# Altium schematic symbol library 65xx.SchLib: 49 symbols
Pins are listed as number, name and electrical type; pins without a type are passive.

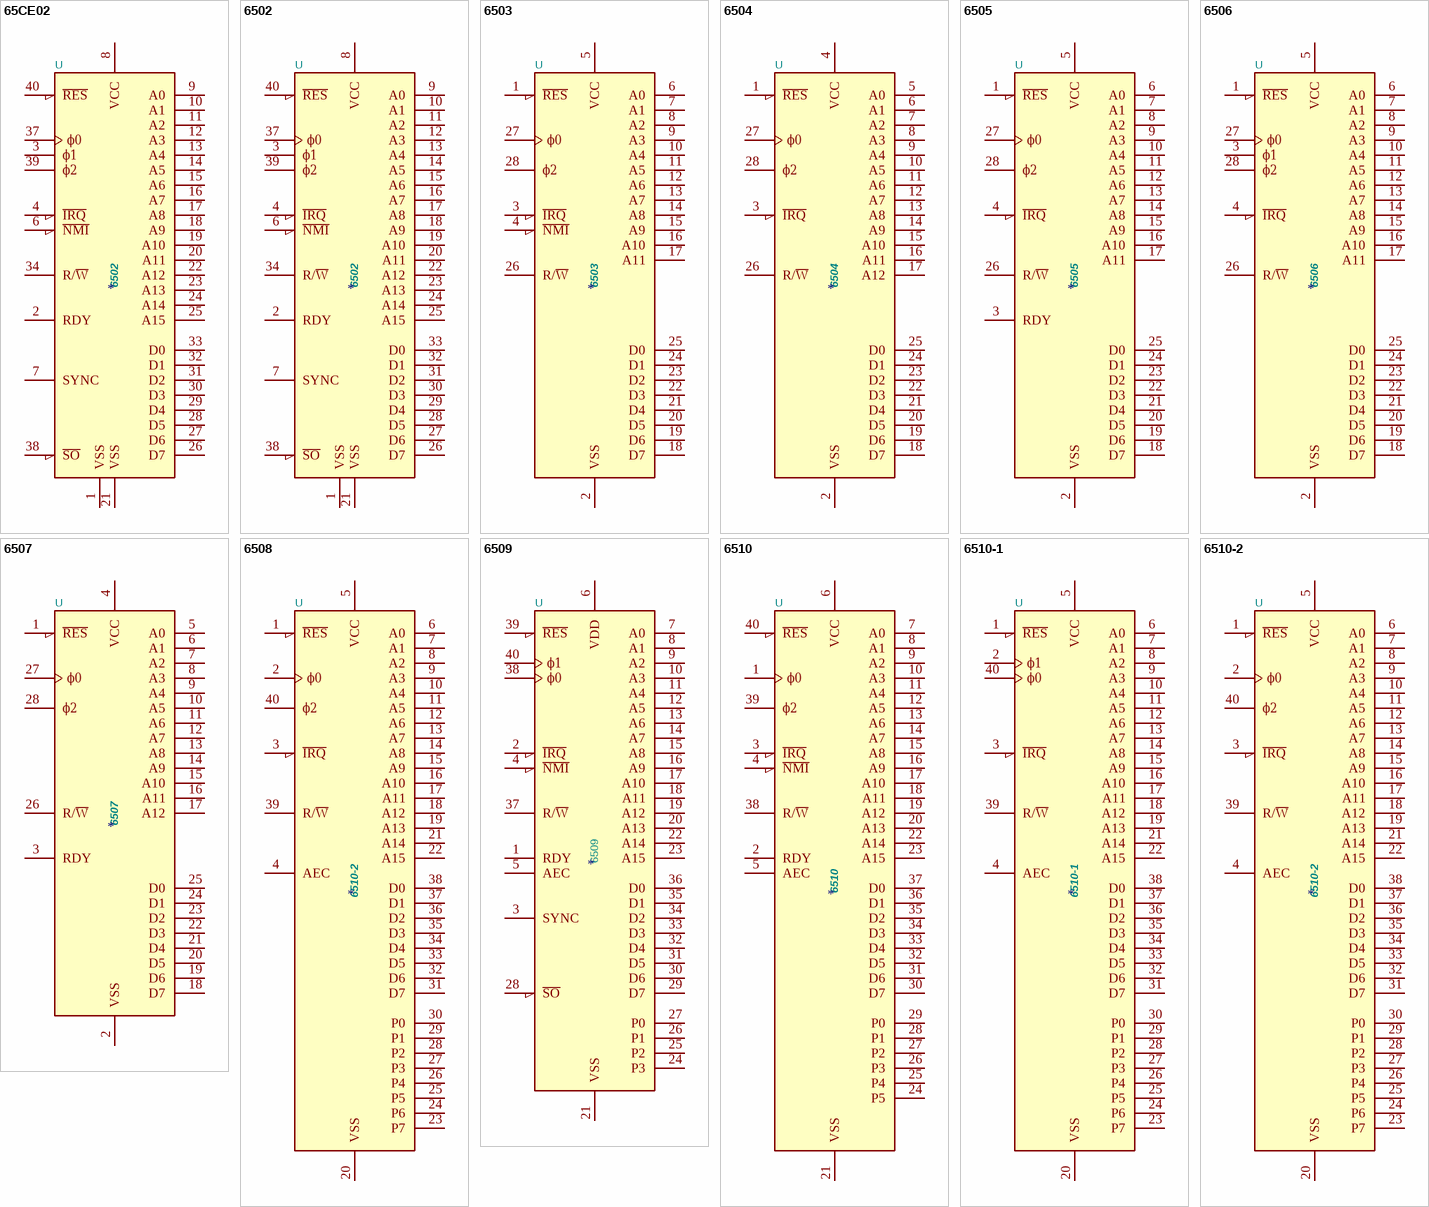
[diagram p0: symbols 65CE02 to 6510-2]

## 65CE02
designator U  value 6502
pins: 1 VSS, 2 RDY, 3 ϕ1, 4 ~{IRQ}, 5 nc hidden, 6 ~{NMI}, 7 SYNC, 8 VCC, 9 A0, 10 A1, 11 A2, 12 A3, 13 A4, 14 A5, 15 A6, 16 A7, 17 A8, 18 A9, 19 A10, 20 A11, 21 VSS, 22 A12, 23 A13, 24 A14, 25 A15, 26 D7, 27 D6, 28 D5, 29 D4, 30 D3, 31 D2, 32 D1, 33 D0, 34 R/~{W}, 35 nc hidden, 36 nc hidden, 37 ϕ0, 38 ~{SO}, 39 ϕ2, 40 ~{RES}

## 6502
designator U  value 6502
pins: 1 VSS, 2 RDY, 3 ϕ1, 4 ~{IRQ}, 5 nc hidden, 6 ~{NMI}, 7 SYNC, 8 VCC, 9 A0, 10 A1, 11 A2, 12 A3, 13 A4, 14 A5, 15 A6, 16 A7, 17 A8, 18 A9, 19 A10, 20 A11, 21 VSS, 22 A12, 23 A13, 24 A14, 25 A15, 26 D7, 27 D6, 28 D5, 29 D4, 30 D3, 31 D2, 32 D1, 33 D0, 34 R/~{W}, 35 nc hidden, 36 nc hidden, 37 ϕ0, 38 ~{SO}, 39 ϕ2, 40 ~{RES}

## 6503
designator U  value 6503
pins: 1 ~{RES}, 2 VSS, 3 ~{IRQ}, 4 ~{NMI}, 5 VCC, 6 A0, 7 A1, 8 A2, 9 A3, 10 A4, 11 A5, 12 A6, 13 A7, 14 A8, 15 A9, 16 A10, 17 A11, 18 D7, 19 D6, 20 D5, 21 D4, 22 D3, 23 D2, 24 D1, 25 D0, 26 R/~{W}, 27 ϕ0, 28 ϕ2

## 6504
designator U  value 6504
pins: 1 ~{RES}, 2 VSS, 3 ~{IRQ}, 4 VCC, 5 A0, 6 A1, 7 A2, 8 A3, 9 A4, 10 A5, 11 A6, 12 A7, 13 A8, 14 A9, 15 A10, 16 A11, 17 A12, 18 D7, 19 D6, 20 D5, 21 D4, 22 D3, 23 D2, 24 D1, 25 D0, 26 R/~{W}, 27 ϕ0, 28 ϕ2

## 6505
designator U  value 6505
pins: 1 ~{RES}, 2 VSS, 3 RDY, 4 ~{IRQ}, 5 VCC, 6 A0, 7 A1, 8 A2, 9 A3, 10 A4, 11 A5, 12 A6, 13 A7, 14 A8, 15 A9, 16 A10, 17 A11, 18 D7, 19 D6, 20 D5, 21 D4, 22 D3, 23 D2, 24 D1, 25 D0, 26 R/~{W}, 27 ϕ0, 28 ϕ2

## 6506
designator U  value 6506
pins: 1 ~{RES}, 2 VSS, 3 ϕ1, 4 ~{IRQ}, 5 VCC, 6 A0, 7 A1, 8 A2, 9 A3, 10 A4, 11 A5, 12 A6, 13 A7, 14 A8, 15 A9, 16 A10, 17 A11, 18 D7, 19 D6, 20 D5, 21 D4, 22 D3, 23 D2, 24 D1, 25 D0, 26 R/~{W}, 27 ϕ0, 28 ϕ2

## 6507
designator U  value 6507
pins: 1 ~{RES}, 2 VSS, 3 RDY, 4 VCC, 5 A0, 6 A1, 7 A2, 8 A3, 9 A4, 10 A5, 11 A6, 12 A7, 13 A8, 14 A9, 15 A10, 16 A11, 17 A12, 18 D7, 19 D6, 20 D5, 21 D4, 22 D3, 23 D2, 24 D1, 25 D0, 26 R/~{W}, 27 ϕ0, 28 ϕ2

## 6508
designator U  value 6510-2
pins: 1 ~{RES}, 2 ϕ0, 3 ~{IRQ}, 4 AEC, 5 VCC, 6 A0, 7 A1, 8 A2, 9 A3, 10 A4, 11 A5, 12 A6, 13 A7, 14 A8, 15 A9, 16 A10, 17 A11, 18 A12, 19 A13, 20 VSS, 21 A14, 22 A15, 23 P7, 24 P6, 25 P5, 26 P4, 27 P3, 28 P2, 29 P1, 30 P0, 31 D7, 32 D6, 33 D5, 34 D4, 35 D3, 36 D2, 37 D1, 38 D0, 39 R/~{W}, 40 ϕ2

## 6509
designator U  value 6509
pins: 1 RDY, 2 ~{IRQ}, 3 SYNC, 4 ~{NMI}, 5 AEC, 6 VDD, 7 A0, 8 A1, 9 A2, 10 A3, 11 A4, 12 A5, 13 A6, 14 A7, 15 A8, 16 A9, 17 A10, 18 A11, 19 A12, 20 A13, 21 VSS, 22 A14, 23 A15, 24 P3, 25 P2, 26 P1, 27 P0, 28 ~{SO}, 29 D7, 30 D6, 31 D5, 32 D4, 33 D3, 34 D2, 35 D1, 36 D0, 37 R/~{W}, 38 ϕ0, 39 ~{RES}, 40 ϕ1

## 6510
designator U  value 6510
pins: 1 ϕ0, 2 RDY, 3 ~{IRQ}, 4 ~{NMI}, 5 AEC, 6 VCC, 7 A0, 8 A1, 9 A2, 10 A3, 11 A4, 12 A5, 13 A6, 14 A7, 15 A8, 16 A9, 17 A10, 18 A11, 19 A12, 20 A13, 21 VSS, 22 A14, 23 A15, 24 P5, 25 P4, 26 P3, 27 P2, 28 P1, 29 P0, 30 D7, 31 D6, 32 D5, 33 D4, 34 D3, 35 D2, 36 D1, 37 D0, 38 R/~{W}, 39 ϕ2, 40 ~{RES}

## 6510-1
designator U  value 6510-1
pins: 1 ~{RES}, 2 ϕ1, 3 ~{IRQ}, 4 AEC, 5 VCC, 6 A0, 7 A1, 8 A2, 9 A3, 10 A4, 11 A5, 12 A6, 13 A7, 14 A8, 15 A9, 16 A10, 17 A11, 18 A12, 19 A13, 20 VSS, 21 A14, 22 A15, 23 P7, 24 P6, 25 P5, 26 P4, 27 P3, 28 P2, 29 P1, 30 P0, 31 D7, 32 D6, 33 D5, 34 D4, 35 D3, 36 D2, 37 D1, 38 D0, 39 R/~{W}, 40 ϕ0

## 6510-2
designator U  value 6510-2
pins: 1 ~{RES}, 2 ϕ0, 3 ~{IRQ}, 4 AEC, 5 VCC, 6 A0, 7 A1, 8 A2, 9 A3, 10 A4, 11 A5, 12 A6, 13 A7, 14 A8, 15 A9, 16 A10, 17 A11, 18 A12, 19 A13, 20 VSS, 21 A14, 22 A15, 23 P7, 24 P6, 25 P5, 26 P4, 27 P3, 28 P2, 29 P1, 30 P0, 31 D7, 32 D6, 33 D5, 34 D4, 35 D3, 36 D2, 37 D1, 38 D0, 39 R/~{W}, 40 ϕ2

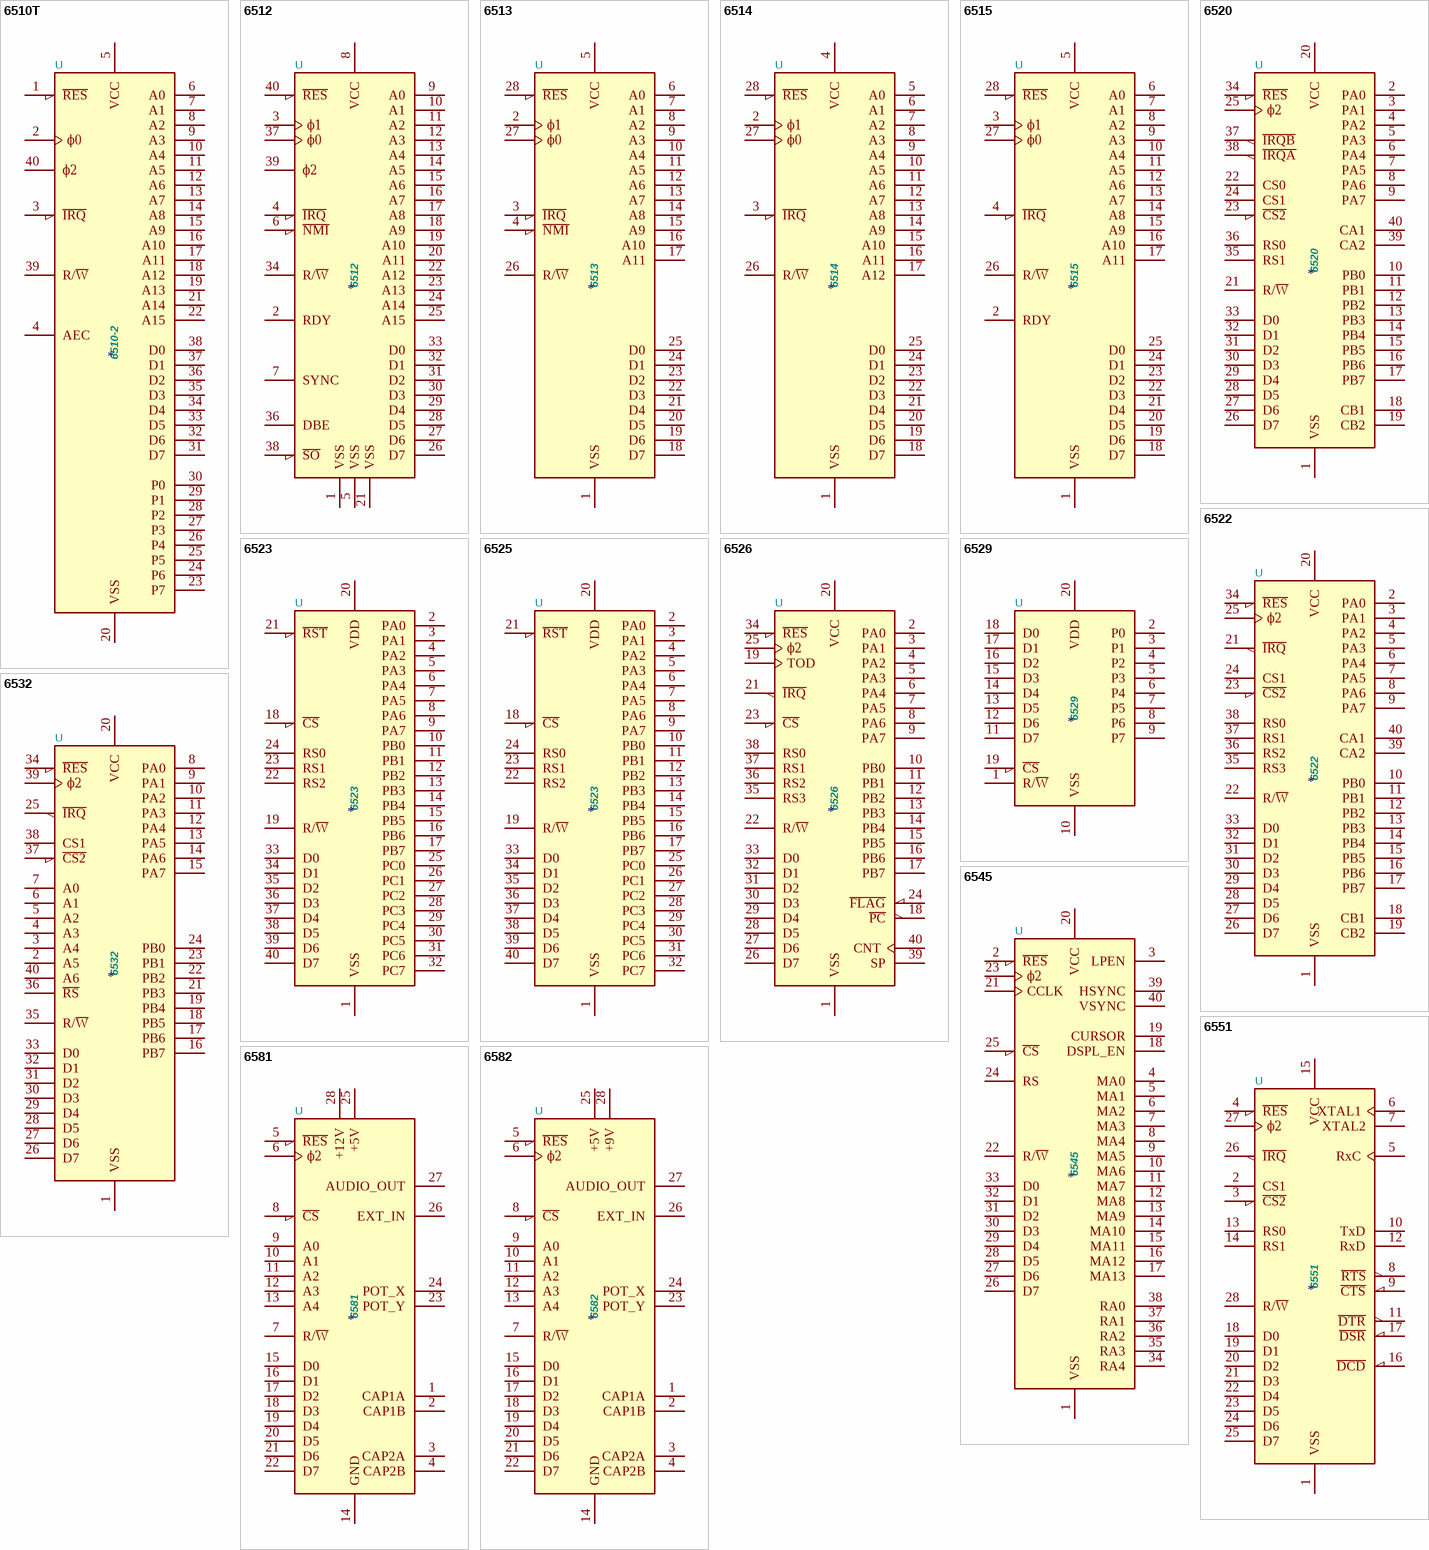
[diagram p1: symbols 6510T to 6582]

## 6510T
designator U  value 6510-2
pins: 1 ~{RES}, 2 ϕ0, 3 ~{IRQ}, 4 AEC, 5 VCC, 6 A0, 7 A1, 8 A2, 9 A3, 10 A4, 11 A5, 12 A6, 13 A7, 14 A8, 15 A9, 16 A10, 17 A11, 18 A12, 19 A13, 20 VSS, 21 A14, 22 A15, 23 P7, 24 P6, 25 P5, 26 P4, 27 P3, 28 P2, 29 P1, 30 P0, 31 D7, 32 D6, 33 D5, 34 D4, 35 D3, 36 D2, 37 D1, 38 D0, 39 R/~{W}, 40 ϕ2

## 6512
designator U  value 6512
pins: 1 VSS, 2 RDY, 3 ϕ1, 4 ~{IRQ}, 5 VSS, 6 ~{NMI}, 7 SYNC, 8 VCC, 9 A0, 10 A1, 11 A2, 12 A3, 13 A4, 14 A5, 15 A6, 16 A7, 17 A8, 18 A9, 19 A10, 20 A11, 21 VSS, 22 A12, 23 A13, 24 A14, 25 A15, 26 D7, 27 D6, 28 D5, 29 D4, 30 D3, 31 D2, 32 D1, 33 D0, 34 R/~{W}, 35 nc hidden, 36 DBE, 37 ϕ0, 38 ~{SO}, 39 ϕ2, 40 ~{RES}

## 6513
designator U  value 6513
pins: 1 VSS, 2 ϕ1, 3 ~{IRQ}, 4 ~{NMI}, 5 VCC, 6 A0, 7 A1, 8 A2, 9 A3, 10 A4, 11 A5, 12 A6, 13 A7, 14 A8, 15 A9, 16 A10, 17 A11, 18 D7, 19 D6, 20 D5, 21 D4, 22 D3, 23 D2, 24 D1, 25 D0, 26 R/~{W}, 27 ϕ0, 28 ~{RES}

## 6514
designator U  value 6514
pins: 1 VSS, 2 ϕ1, 3 ~{IRQ}, 4 VCC, 5 A0, 6 A1, 7 A2, 8 A3, 9 A4, 10 A5, 11 A6, 12 A7, 13 A8, 14 A9, 15 A10, 16 A11, 17 A12, 18 D7, 19 D6, 20 D5, 21 D4, 22 D3, 23 D2, 24 D1, 25 D0, 26 R/~{W}, 27 ϕ0, 28 ~{RES}

## 6515
designator U  value 6515
pins: 1 VSS, 2 RDY, 3 ϕ1, 4 ~{IRQ}, 5 VCC, 6 A0, 7 A1, 8 A2, 9 A3, 10 A4, 11 A5, 12 A6, 13 A7, 14 A8, 15 A9, 16 A10, 17 A11, 18 D7, 19 D6, 20 D5, 21 D4, 22 D3, 23 D2, 24 D1, 25 D0, 26 R/~{W}, 27 ϕ0, 28 ~{RES}

## 6520
designator U  value 6520
pins: 1 VSS, 2 PA0, 3 PA1, 4 PA2, 5 PA3, 6 PA4, 7 PA5, 8 PA6, 9 PA7, 10 PB0, 11 PB1, 12 PB2, 13 PB3, 14 PB4, 15 PB5, 16 PB6, 17 PB7, 18 CB1, 19 CB2, 20 VCC, 21 R/~{W}, 22 CS0, 23 ~{CS2}, 24 CS1, 25 ϕ2, 26 D7, 27 D6, 28 D5, 29 D4, 30 D3, 31 D2, 32 D1, 33 D0, 34 ~{RES}, 35 RS1, 36 RS0, 37 ~{IRQB}, 38 ~{IRQA}, 39 CA2, 40 CA1

## 6522
designator U  value 6522
pins: 1 VSS, 2 PA0, 3 PA1, 4 PA2, 5 PA3, 6 PA4, 7 PA5, 8 PA6, 9 PA7, 10 PB0, 11 PB1, 12 PB2, 13 PB3, 14 PB4, 15 PB5, 16 PB6, 17 PB7, 18 CB1, 19 CB2, 20 VCC, 21 ~{IRQ}, 22 R/~{W}, 23 ~{CS2}, 24 CS1, 25 ϕ2, 26 D7, 27 D6, 28 D5, 29 D4, 30 D3, 31 D2, 32 D1, 33 D0, 34 ~{RES}, 35 RS3, 36 RS2, 37 RS1, 38 RS0, 39 CA2, 40 CA1

## 6523
designator U  value 6523
pins: 1 VSS, 2 PA0, 3 PA1, 4 PA2, 5 PA3, 6 PA4, 7 PA5, 8 PA6, 9 PA7, 10 PB0, 11 PB1, 12 PB2, 13 PB3, 14 PB4, 15 PB5, 16 PB6, 17 PB7, 18 ~{CS}, 19 R/~{W}, 20 VDD, 21 ~{RST}, 22 RS2, 23 RS1, 24 RS0, 25 PC0, 26 PC1, 27 PC2, 28 PC3, 29 PC4, 30 PC5, 31 PC6, 32 PC7, 33 D0, 34 D1, 35 D2, 36 D3, 37 D4, 38 D5, 39 D6, 40 D7

## 6525
designator U  value 6523
pins: 1 VSS, 2 PA0, 3 PA1, 4 PA2, 5 PA3, 6 PA4, 7 PA5, 8 PA6, 9 PA7, 10 PB0, 11 PB1, 12 PB2, 13 PB3, 14 PB4, 15 PB5, 16 PB6, 17 PB7, 18 ~{CS}, 19 R/~{W}, 20 VDD, 21 ~{RST}, 22 RS2, 23 RS1, 24 RS0, 25 PC0, 26 PC1, 27 PC2, 28 PC3, 29 PC4, 30 PC5, 31 PC6, 32 PC7, 33 D0, 34 D1, 35 D2, 36 D3, 37 D4, 38 D5, 39 D6, 40 D7

## 6526
designator U  value 6526
pins: 1 VSS, 2 PA0, 3 PA1, 4 PA2, 5 PA3, 6 PA4, 7 PA5, 8 PA6, 9 PA7, 10 PB0, 11 PB1, 12 PB2, 13 PB3, 14 PB4, 15 PB5, 16 PB6, 17 PB7, 18 ~{PC}, 19 TOD, 20 VCC, 21 ~{IRQ}, 22 R/~{W}, 23 ~{CS}, 24 ~{FLAG}, 25 ϕ2, 26 D7, 27 D6, 28 D5, 29 D4, 30 D3, 31 D2, 32 D1, 33 D0, 34 ~{RES}, 35 RS3, 36 RS2, 37 RS1, 38 RS0, 39 SP, 40 CNT

## 6529
designator U  value 6529
pins: 1 R/~{W}, 2 P0, 3 P1, 4 P2, 5 P3, 6 P4, 7 P5, 8 P6, 9 P7, 10 VSS, 11 D7, 12 D6, 13 D5, 14 D4, 15 D3, 16 D2, 17 D1, 18 D0, 19 ~{CS}, 20 VDD

## 6532
designator U  value 6532
pins: 1 VSS, 2 A5, 3 A4, 4 A3, 5 A2, 6 A1, 7 A0, 8 PA0, 9 PA1, 10 PA2, 11 PA3, 12 PA4, 13 PA5, 14 PA6, 15 PA7, 16 PB7, 17 PB6, 18 PB5, 19 PB4, 20 VCC, 21 PB3, 22 PB2, 23 PB1, 24 PB0, 25 ~{IRQ}, 26 D7, 27 D6, 28 D5, 29 D4, 30 D3, 31 D2, 32 D1, 33 D0, 34 ~{RES}, 35 R/~{W}, 36 ~{RS}, 37 ~{CS2}, 38 CS1, 39 ϕ2, 40 A6

## 6545
designator U  value 6545
pins: 1 VSS, 2 ~{RES}, 3 LPEN, 4 MA0, 5 MA1, 6 MA2, 7 MA3, 8 MA4, 9 MA5, 10 MA6, 11 MA7, 12 MA8, 13 MA9, 14 MA10, 15 MA11, 16 MA12, 17 MA13, 18 DSPL_EN, 19 CURSOR, 20 VCC, 21 CCLK, 22 R/~{W}, 23 ϕ2, 24 RS, 25 ~{CS}, 26 D7, 27 D6, 28 D5, 29 D4, 30 D3, 31 D2, 32 D1, 33 D0, 34 RA4, 35 RA3, 36 RA2, 37 RA1, 38 RA0, 39 HSYNC, 40 VSYNC

## 6551
designator U  value 6551
pins: 1 VSS, 2 CS1, 3 ~{CS2}, 4 ~{RES}, 5 RxC, 6 XTAL1, 7 XTAL2, 8 ~{RTS}, 9 ~{CTS}, 10 TxD, 11 ~{DTR}, 12 RxD, 13 RS0, 14 RS1, 15 VCC, 16 ~{DCD}, 17 ~{DSR}, 18 D0, 19 D1, 20 D2, 21 D3, 22 D4, 23 D5, 24 D6, 25 D7, 26 ~{IRQ}, 27 ϕ2, 28 R/~{W}

## 6581
designator U  value 6581
pins: 1 CAP1A, 2 CAP1B, 3 CAP2A, 4 CAP2B, 5 ~{RES}, 6 ϕ2, 7 R/~{W}, 8 ~{CS}, 9 A0, 10 A1, 11 A2, 12 A3, 13 A4, 14 GND, 15 D0, 16 D1, 17 D2, 18 D3, 19 D4, 20 D5, 21 D6, 22 D7, 23 POT_Y, 24 POT_X, 25 +5V, 26 EXT_IN, 27 AUDIO_OUT, 28 +12V

## 6582
designator U  value 6582
pins: 1 CAP1A, 2 CAP1B, 3 CAP2A, 4 CAP2B, 5 ~{RES}, 6 ϕ2, 7 R/~{W}, 8 ~{CS}, 9 A0, 10 A1, 11 A2, 12 A3, 13 A4, 14 GND, 15 D0, 16 D1, 17 D2, 18 D3, 19 D4, 20 D5, 21 D6, 22 D7, 23 POT_Y, 24 POT_X, 25 +5V, 26 EXT_IN, 27 AUDIO_OUT, 28 +9V

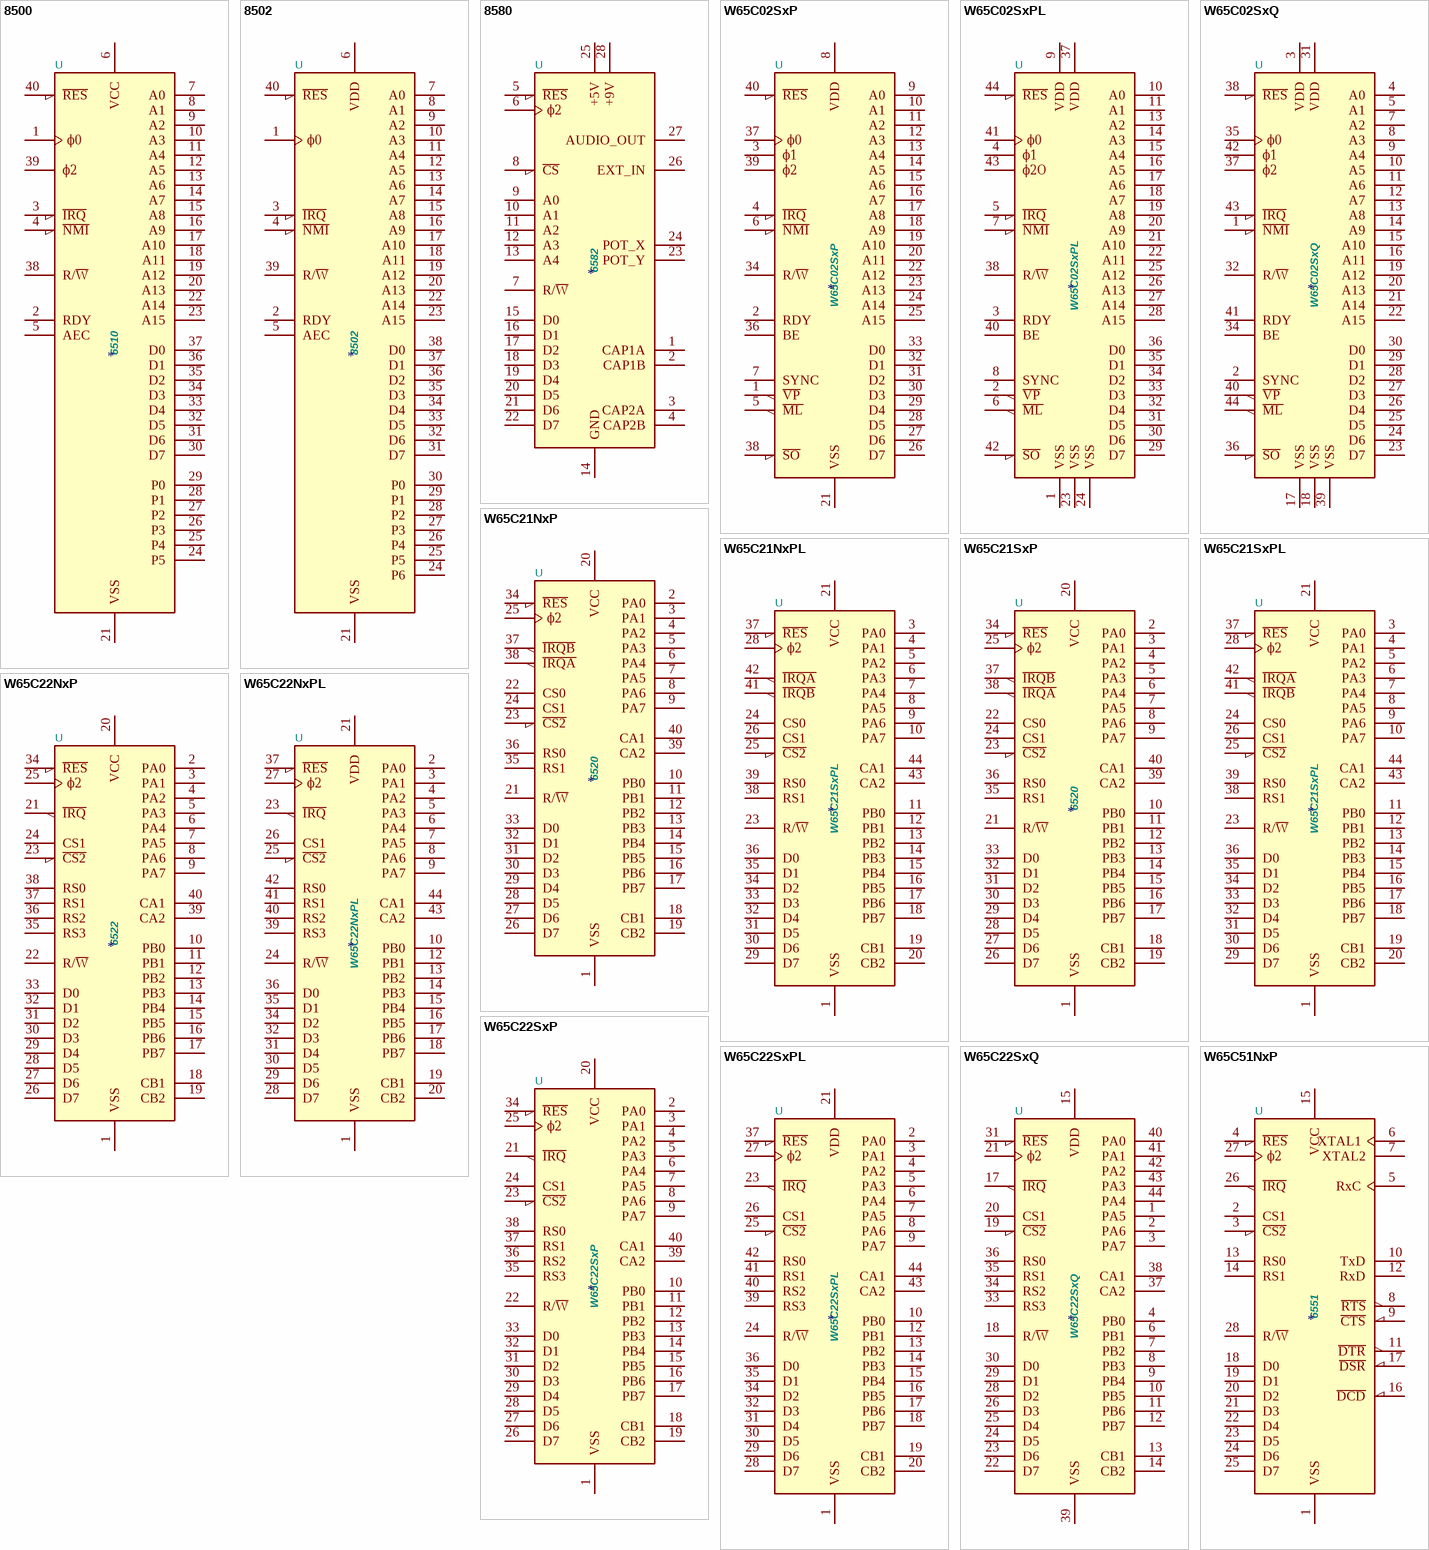
[diagram p2: symbols 8500 to W65C51NxP]

## 8500
designator U  value 6510
pins: 1 ϕ0, 2 RDY, 3 ~{IRQ}, 4 ~{NMI}, 5 AEC, 6 VCC, 7 A0, 8 A1, 9 A2, 10 A3, 11 A4, 12 A5, 13 A6, 14 A7, 15 A8, 16 A9, 17 A10, 18 A11, 19 A12, 20 A13, 21 VSS, 22 A14, 23 A15, 24 P5, 25 P4, 26 P3, 27 P2, 28 P1, 29 P0, 30 D7, 31 D6, 32 D5, 33 D4, 34 D3, 35 D2, 36 D1, 37 D0, 38 R/~{W}, 39 ϕ2, 40 ~{RES}

## 8502
designator U  value 8502
pins: 1 ϕ0, 2 RDY, 3 ~{IRQ}, 4 ~{NMI}, 5 AEC, 6 VDD, 7 A0, 8 A1, 9 A2, 10 A3, 11 A4, 12 A5, 13 A6, 14 A7, 15 A8, 16 A9, 17 A10, 18 A11, 19 A12, 20 A13, 21 VSS, 22 A14, 23 A15, 24 P6, 25 P5, 26 P4, 27 P3, 28 P2, 29 P1, 30 P0, 31 D7, 32 D6, 33 D5, 34 D4, 35 D3, 36 D2, 37 D1, 38 D0, 39 R/~{W}, 40 ~{RES}

## 8580
designator U  value 6582
pins: 1 CAP1A, 2 CAP1B, 3 CAP2A, 4 CAP2B, 5 ~{RES}, 6 ϕ2, 7 R/~{W}, 8 ~{CS}, 9 A0, 10 A1, 11 A2, 12 A3, 13 A4, 14 GND, 15 D0, 16 D1, 17 D2, 18 D3, 19 D4, 20 D5, 21 D6, 22 D7, 23 POT_Y, 24 POT_X, 25 +5V, 26 EXT_IN, 27 AUDIO_OUT, 28 +9V

## W65C02SxP
designator U  value W65C02SxP
pins: 1 ~{VP}, 2 RDY, 3 ϕ1, 4 ~{IRQ}, 5 ~{ML}, 6 ~{NMI}, 7 SYNC, 8 VDD, 9 A0, 10 A1, 11 A2, 12 A3, 13 A4, 14 A5, 15 A6, 16 A7, 17 A8, 18 A9, 19 A10, 20 A11, 21 VSS, 22 A12, 23 A13, 24 A14, 25 A15, 26 D7, 27 D6, 28 D5, 29 D4, 30 D3, 31 D2, 32 D1, 33 D0, 34 R/~{W}, 35 nc hidden, 36 BE, 37 ϕ0, 38 ~{SO}, 39 ϕ2, 40 ~{RES}

## W65C02SxPL
designator U  value W65C02SxPL
pins: 1 VSS, 2 ~{VP}, 3 RDY, 4 ϕ1, 5 ~{IRQ}, 6 ~{ML}, 7 ~{NMI}, 8 SYNC, 9 VDD, 10 A0, 11 A1, 12 nc hidden, 13 A2, 14 A3, 15 A4, 16 A5, 17 A6, 18 A7, 19 A8, 20 A9, 21 A10, 22 A11, 23 VSS, 24 VSS, 25 A12, 26 A13, 27 A14, 28 A15, 29 D7, 30 D6, 31 D5, 32 D4, 33 D3, 34 D2, 35 D1, 36 D0, 37 VDD, 38 R/~{W}, 39 nc hidden, 40 BE, 41 ϕ0, 42 ~{SO}, 43 ϕ2O, 44 ~{RES}

## W65C02SxQ
designator U  value W65C02SxQ
pins: 1 ~{NMI}, 2 SYNC, 3 VDD, 4 A0, 5 A1, 6 nc hidden, 7 A2, 8 A3, 9 A4, 10 A5, 11 A6, 12 A7, 13 A8, 14 A9, 15 A10, 16 A11, 17 VSS, 18 VSS, 19 A12, 20 A13, 21 A14, 22 A15, 23 D7, 24 D6, 25 D5, 26 D4, 27 D3, 28 D2, 29 D1, 30 D0, 31 VDD, 32 R/~{W}, 33 nc hidden, 34 BE, 35 ϕ0, 36 ~{SO}, 37 ϕ2, 38 ~{RES}, 39 VSS, 40 ~{VP}, 41 RDY, 42 ϕ1, 43 ~{IRQ}, 44 ~{ML}

## W65C21NxP
designator U  value 6520
pins: 1 VSS, 2 PA0, 3 PA1, 4 PA2, 5 PA3, 6 PA4, 7 PA5, 8 PA6, 9 PA7, 10 PB0, 11 PB1, 12 PB2, 13 PB3, 14 PB4, 15 PB5, 16 PB6, 17 PB7, 18 CB1, 19 CB2, 20 VCC, 21 R/~{W}, 22 CS0, 23 ~{CS2}, 24 CS1, 25 ϕ2, 26 D7, 27 D6, 28 D5, 29 D4, 30 D3, 31 D2, 32 D1, 33 D0, 34 ~{RES}, 35 RS1, 36 RS0, 37 ~{IRQB}, 38 ~{IRQA}, 39 CA2, 40 CA1

## W65C21NxPL
designator U  value W65C21SxPL
pins: 1 VSS, 2 nc hidden, 3 PA0, 4 PA1, 5 PA2, 6 PA3, 7 PA4, 8 PA5, 9 PA6, 10 PA7, 11 PB0, 12 PB1, 13 PB2, 14 PB3, 15 PB4, 16 PB5, 17 PB6, 18 PB7, 19 CB1, 20 CB2, 21 VCC, 22 nc hidden, 23 R/~{W}, 24 CS0, 25 ~{CS2}, 26 CS1, 27 nc hidden, 28 ϕ2, 29 D7, 30 D6, 31 D5, 32 D4, 33 D3, 34 D2, 35 D1, 36 D0, 37 ~{RES}, 38 RS1, 39 RS0, 40 nc hidden, 41 ~{IRQB}, 42 ~{IRQA}, 43 CA2, 44 CA1

## W65C21SxP
designator U  value 6520
pins: 1 VSS, 2 PA0, 3 PA1, 4 PA2, 5 PA3, 6 PA4, 7 PA5, 8 PA6, 9 PA7, 10 PB0, 11 PB1, 12 PB2, 13 PB3, 14 PB4, 15 PB5, 16 PB6, 17 PB7, 18 CB1, 19 CB2, 20 VCC, 21 R/~{W}, 22 CS0, 23 ~{CS2}, 24 CS1, 25 ϕ2, 26 D7, 27 D6, 28 D5, 29 D4, 30 D3, 31 D2, 32 D1, 33 D0, 34 ~{RES}, 35 RS1, 36 RS0, 37 ~{IRQB}, 38 ~{IRQA}, 39 CA2, 40 CA1

## W65C21SxPL
designator U  value W65C21SxPL
pins: 1 VSS, 2 nc hidden, 3 PA0, 4 PA1, 5 PA2, 6 PA3, 7 PA4, 8 PA5, 9 PA6, 10 PA7, 11 PB0, 12 PB1, 13 PB2, 14 PB3, 15 PB4, 16 PB5, 17 PB6, 18 PB7, 19 CB1, 20 CB2, 21 VCC, 22 nc hidden, 23 R/~{W}, 24 CS0, 25 ~{CS2}, 26 CS1, 27 nc hidden, 28 ϕ2, 29 D7, 30 D6, 31 D5, 32 D4, 33 D3, 34 D2, 35 D1, 36 D0, 37 ~{RES}, 38 RS1, 39 RS0, 40 nc hidden, 41 ~{IRQB}, 42 ~{IRQA}, 43 CA2, 44 CA1

## W65C22NxP
designator U  value 6522
pins: 1 VSS, 2 PA0, 3 PA1, 4 PA2, 5 PA3, 6 PA4, 7 PA5, 8 PA6, 9 PA7, 10 PB0, 11 PB1, 12 PB2, 13 PB3, 14 PB4, 15 PB5, 16 PB6, 17 PB7, 18 CB1, 19 CB2, 20 VCC, 21 ~{IRQ}, 22 R/~{W}, 23 ~{CS2}, 24 CS1, 25 ϕ2, 26 D7, 27 D6, 28 D5, 29 D4, 30 D3, 31 D2, 32 D1, 33 D0, 34 ~{RES}, 35 RS3, 36 RS2, 37 RS1, 38 RS0, 39 CA2, 40 CA1

## W65C22NxPL
designator U  value W65C22NxPL
pins: 1 VSS, 2 PA0, 3 PA1, 4 PA2, 5 PA3, 6 PA4, 7 PA5, 8 PA6, 9 PA7, 10 PB0, 11 nc hidden, 12 PB1, 13 PB2, 14 PB3, 15 PB4, 16 PB5, 17 PB6, 18 PB7, 19 CB1, 20 CB2, 21 VDD, 22 nc hidden, 23 ~{IRQ}, 24 R/~{W}, 25 ~{CS2}, 26 CS1, 27 ϕ2, 28 D7, 29 D6, 30 D5, 31 D4, 32 D3, 33 nc hidden, 34 D2, 35 D1, 36 D0, 37 ~{RES}, 38 nc hidden, 39 RS3, 40 RS2, 41 RS1, 42 RS0, 43 CA2, 44 CA1

## W65C22SxP
designator U  value W65C22SxP
pins: 1 VSS, 2 PA0, 3 PA1, 4 PA2, 5 PA3, 6 PA4, 7 PA5, 8 PA6, 9 PA7, 10 PB0, 11 PB1, 12 PB2, 13 PB3, 14 PB4, 15 PB5, 16 PB6, 17 PB7, 18 CB1, 19 CB2, 20 VCC, 21 ~{IRQ}, 22 R/~{W}, 23 ~{CS2}, 24 CS1, 25 ϕ2, 26 D7, 27 D6, 28 D5, 29 D4, 30 D3, 31 D2, 32 D1, 33 D0, 34 ~{RES}, 35 RS3, 36 RS2, 37 RS1, 38 RS0, 39 CA2, 40 CA1

## W65C22SxPL
designator U  value W65C22SxPL
pins: 1 VSS, 2 PA0, 3 PA1, 4 PA2, 5 PA3, 6 PA4, 7 PA5, 8 PA6, 9 PA7, 10 PB0, 11 nc hidden, 12 PB1, 13 PB2, 14 PB3, 15 PB4, 16 PB5, 17 PB6, 18 PB7, 19 CB1, 20 CB2, 21 VDD, 22 nc hidden, 23 ~{IRQ}, 24 R/~{W}, 25 ~{CS2}, 26 CS1, 27 ϕ2, 28 D7, 29 D6, 30 D5, 31 D4, 32 D3, 33 nc hidden, 34 D2, 35 D1, 36 D0, 37 ~{RES}, 38 nc hidden, 39 RS3, 40 RS2, 41 RS1, 42 RS0, 43 CA2, 44 CA1

## W65C22SxQ
designator U  value W65C22SxQ
pins: 1 PA5, 2 PA6, 3 PA7, 4 PB0, 5 nc hidden, 6 PB1, 7 PB2, 8 PB3, 9 PB4, 10 PB5, 11 PB6, 12 PB7, 13 CB1, 14 CB2, 15 VDD, 16 nc hidden, 17 ~{IRQ}, 18 R/~{W}, 19 ~{CS2}, 20 CS1, 21 ϕ2, 22 D7, 23 D6, 24 D5, 25 D4, 26 D3, 27 nc hidden, 28 D2, 29 D1, 30 D0, 31 ~{RES}, 32 nc hidden, 33 RS3, 34 RS2, 35 RS1, 36 RS0, 37 CA2, 38 CA1, 39 VSS, 40 PA0, 41 PA1, 42 PA2, 43 PA3, 44 PA4

## W65C51NxP
designator U  value 6551
pins: 1 VSS, 2 CS1, 3 ~{CS2}, 4 ~{RES}, 5 RxC, 6 XTAL1, 7 XTAL2, 8 ~{RTS}, 9 ~{CTS}, 10 TxD, 11 ~{DTR}, 12 RxD, 13 RS0, 14 RS1, 15 VCC, 16 ~{DCD}, 17 ~{DSR}, 18 D0, 19 D1, 20 D2, 21 D3, 22 D4, 23 D5, 24 D6, 25 D7, 26 ~{IRQ}, 27 ϕ2, 28 R/~{W}

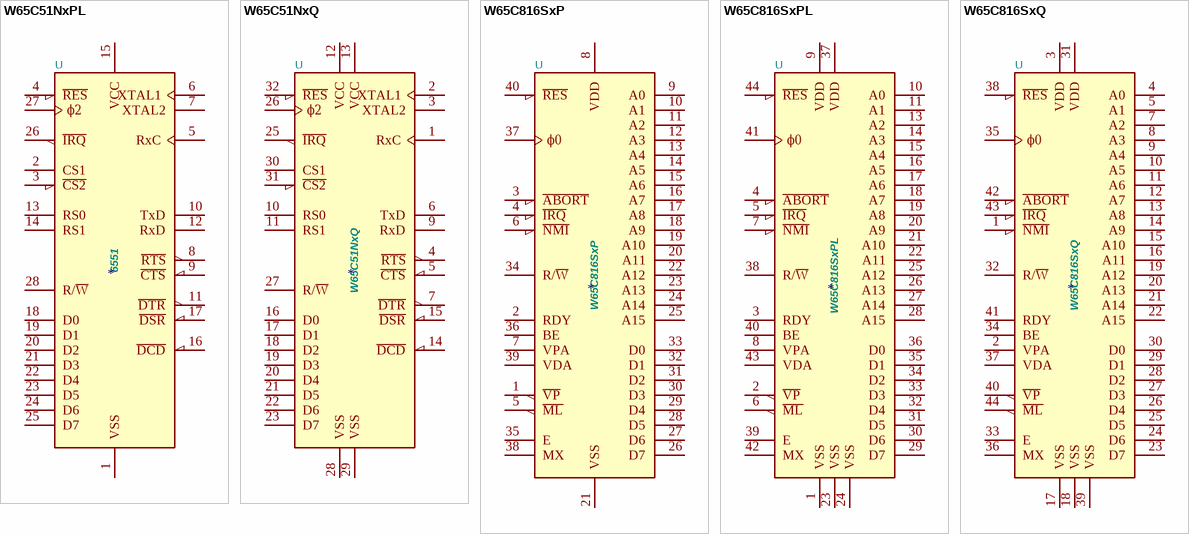
[diagram p3: symbols W65C51NxPL to W65C816SxQ]

## W65C51NxPL
designator U  value 6551
pins: 1 VSS, 2 CS1, 3 ~{CS2}, 4 ~{RES}, 5 RxC, 6 XTAL1, 7 XTAL2, 8 ~{RTS}, 9 ~{CTS}, 10 TxD, 11 ~{DTR}, 12 RxD, 13 RS0, 14 RS1, 15 VCC, 16 ~{DCD}, 17 ~{DSR}, 18 D0, 19 D1, 20 D2, 21 D3, 22 D4, 23 D5, 24 D6, 25 D7, 26 ~{IRQ}, 27 ϕ2, 28 R/~{W}

## W65C51NxQ
designator U  value W65C51NxQ
pins: 1 RxC, 2 XTAL1, 3 XTAL2, 4 ~{RTS}, 5 ~{CTS}, 6 TxD, 7 ~{DTR}, 8 nc hidden, 9 RxD, 10 RS0, 11 RS1, 12 VCC, 13 VCC, 14 ~{DCD}, 15 ~{DSR}, 16 D0, 17 D1, 18 D2, 19 D3, 20 D4, 21 D5, 22 D6, 23 D7, 24 nc hidden, 25 ~{IRQ}, 26 ϕ2, 27 R/~{W}, 28 VSS, 29 VSS, 30 CS1, 31 ~{CS2}, 32 ~{RES}

## W65C816SxP
designator U  value W65C816SxP
pins: 1 ~{VP}, 2 RDY, 3 ~{ABORT}, 4 ~{IRQ}, 5 ~{ML}, 6 ~{NMI}, 7 VPA, 8 VDD, 9 A0, 10 A1, 11 A2, 12 A3, 13 A4, 14 A5, 15 A6, 16 A7, 17 A8, 18 A9, 19 A10, 20 A11, 21 VSS, 22 A12, 23 A13, 24 A14, 25 A15, 26 D7, 27 D6, 28 D5, 29 D4, 30 D3, 31 D2, 32 D1, 33 D0, 34 R/~{W}, 35 E, 36 BE, 37 ϕ0, 38 MX, 39 VDA, 40 ~{RES}

## W65C816SxPL
designator U  value W65C816SxPL
pins: 1 VSS, 2 ~{VP}, 3 RDY, 4 ~{ABORT}, 5 ~{IRQ}, 6 ~{ML}, 7 ~{NMI}, 8 VPA, 9 VDD, 10 A0, 11 A1, 12 nc hidden, 13 A2, 14 A3, 15 A4, 16 A5, 17 A6, 18 A7, 19 A8, 20 A9, 21 A10, 22 A11, 23 VSS, 24 VSS, 25 A12, 26 A13, 27 A14, 28 A15, 29 D7, 30 D6, 31 D5, 32 D4, 33 D3, 34 D2, 35 D1, 36 D0, 37 VDD, 38 R/~{W}, 39 E, 40 BE, 41 ϕ0, 42 MX, 43 VDA, 44 ~{RES}

## W65C816SxQ
designator U  value W65C816SxQ
pins: 1 ~{NMI}, 2 VPA, 3 VDD, 4 A0, 5 A1, 6 nc hidden, 7 A2, 8 A3, 9 A4, 10 A5, 11 A6, 12 A7, 13 A8, 14 A9, 15 A10, 16 A11, 17 VSS, 18 VSS, 19 A12, 20 A13, 21 A14, 22 A15, 23 D7, 24 D6, 25 D5, 26 D4, 27 D3, 28 D2, 29 D1, 30 D0, 31 VDD, 32 R/~{W}, 33 E, 34 BE, 35 ϕ0, 36 MX, 37 VDA, 38 ~{RES}, 39 VSS, 40 ~{VP}, 41 RDY, 42 ~{ABORT}, 43 ~{IRQ}, 44 ~{ML}